# EAGLE library part ADXL362 (library Kas-Sensors)
ADXL362 Accelorometer ADXL362: MICROPOWER, 3-AXIS, ±2 g/±4 g/±8 g DIGITAL OUTPUT MEMS ACCELEROMETER
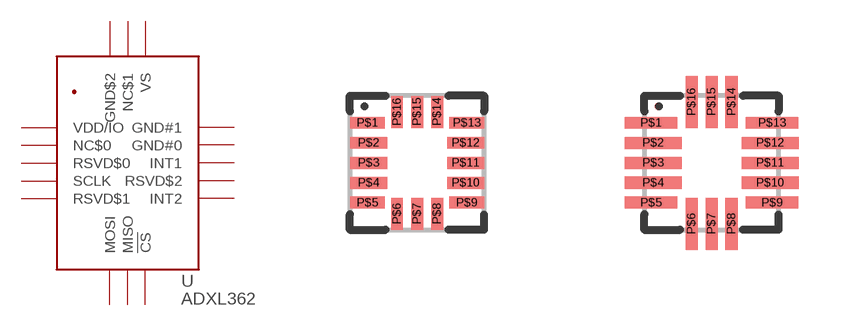
[diagram p1: symbol with the pads of LGA-16(3X3.25); footprints LGA-16(3X3.25), LGA-16(3X3.25)_HS]

Designator prefix U

## ADXL362  [LGA-16(3X3.25)]
P$1  VDD/IO
P$2  NC$0
P$3  RSVD$0
P$4  SCLK
P$5  RSVD$1
P$6  MOSI
P$7  MISO
P$8  !CS
P$9  INT2
P$10  RSVD$2
P$11  INT1
P$12  GND#0
P$13  GND#1
P$14  VS
P$15  NC$1
P$16  GND$2

## ADXL362_HS  [LGA-16(3X3.25)_HS]
Pads as for LGA-16(3X3.25)

## Footprint LGA-16(3X3.25) (pad centres in mm)
smd 0.865 x 0.3: P$1 -1.242,1; P$5 -1.242,-1; P$9 1.242,-1; P$13 1.242,1
smd 0.925 x 0.3: P$2 -1.212,0.5; P$3 -1.212,0; P$4 -1.212,-0.5; P$10 1.212,-0.5; P$11 1.212,0; P$12 1.212,0.5
smd 0.3 x 0.8: P$6 -0.5,-1.275; P$7 0,-1.275; P$8 0.5,-1.275; P$14 0.5,1.275; P$15 0,1.275; P$16 -0.5,1.275

## Footprint LGA-16(3X3.25)_HS (pad centres in mm)
smd 1.32 x 0.3: P$1 -1.513,1; P$5 -1.513,-1; P$9 1.513,-1; P$13 1.513,1
smd 1.425 x 0.3: P$2 -1.462,0.5; P$3 -1.462,0; P$4 -1.462,-0.5; P$10 1.462,-0.5; P$11 1.462,0; P$12 1.462,0.5
smd 0.3 x 1.3: P$6 -0.5,-1.525; P$7 0,-1.525; P$8 0.5,-1.525; P$14 0.5,1.525; P$15 0,1.525; P$16 -0.5,1.525